# EAGLE library part CS4344-CZZ (library Deegou_IC)
Audio D/A Converter ICs Stereo DAC 24-Bit 192kHz Source: Datasheet <http://www.mouser.com/ds/2/76/CS4344-45-48_F2-472818.pdf>
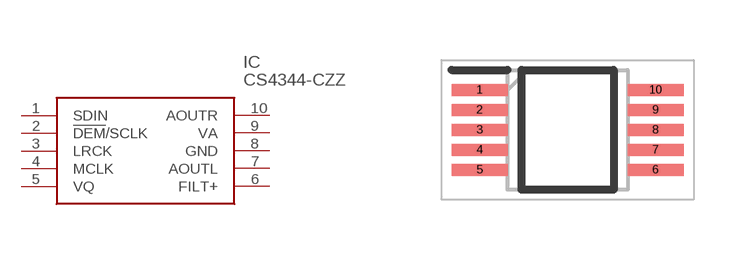
[diagram p8: symbol with the pads of SOP50P490X110-10N; footprint SOP50P490X110-10N]

Designator prefix IC

## CS4344-CZZ (ARROW_PART_NUMBER: CS4344-CZZ; ARROW_PRICE/STOCK: http://uk.rs-online.com/web/p/products/4915754; DESCRIPTION: Audio D/A Converter ICs Stereo DAC 24-Bit 192kHz; HEIGHT: 1.1mm; MANUFACTURER_NAME: Cirrus Logic; MANUFACTURER_PART_NUMBER: CS4344-CZZ; RS_PART_NUMBER: 4915754; RS_PRICE/STOCK: http://uk.rs-online.com/web/p/products/4915754)  [SOP50P490X110-10N]
1  SDIN
2  !DEM!/SCLK
3  LRCK
4  MCLK
5  VQ
6  FILT+
7  AOUTL
8  GND
9  VA
10  AOUTR

## Footprint SOP50P490X110-10N (pad centres in mm)
CS4344-CZZ
smd 1.4 x 0.3: 1 -2.2,1; 2 -2.2,0.5; 3 -2.2,0; 4 -2.2,-0.5; 5 -2.2,-1; 6 2.2,-1; 7 2.2,-0.5; 8 2.2,0; 9 2.2,0.5; 10 2.2,1